# Altium footprint library 电阻.PCBLIB: 39 footprints (part 3 of 3)
Each footprint in its own frame and in the unit in brackets; x right, y up, seen from the top. Pads: shape width x height; smd on the part's side, far side on the other; paste and mask are expansions set on the pad; w line width, h text height; cw(c..) or ccw(c..) is an arc to the next point about the centre after c.
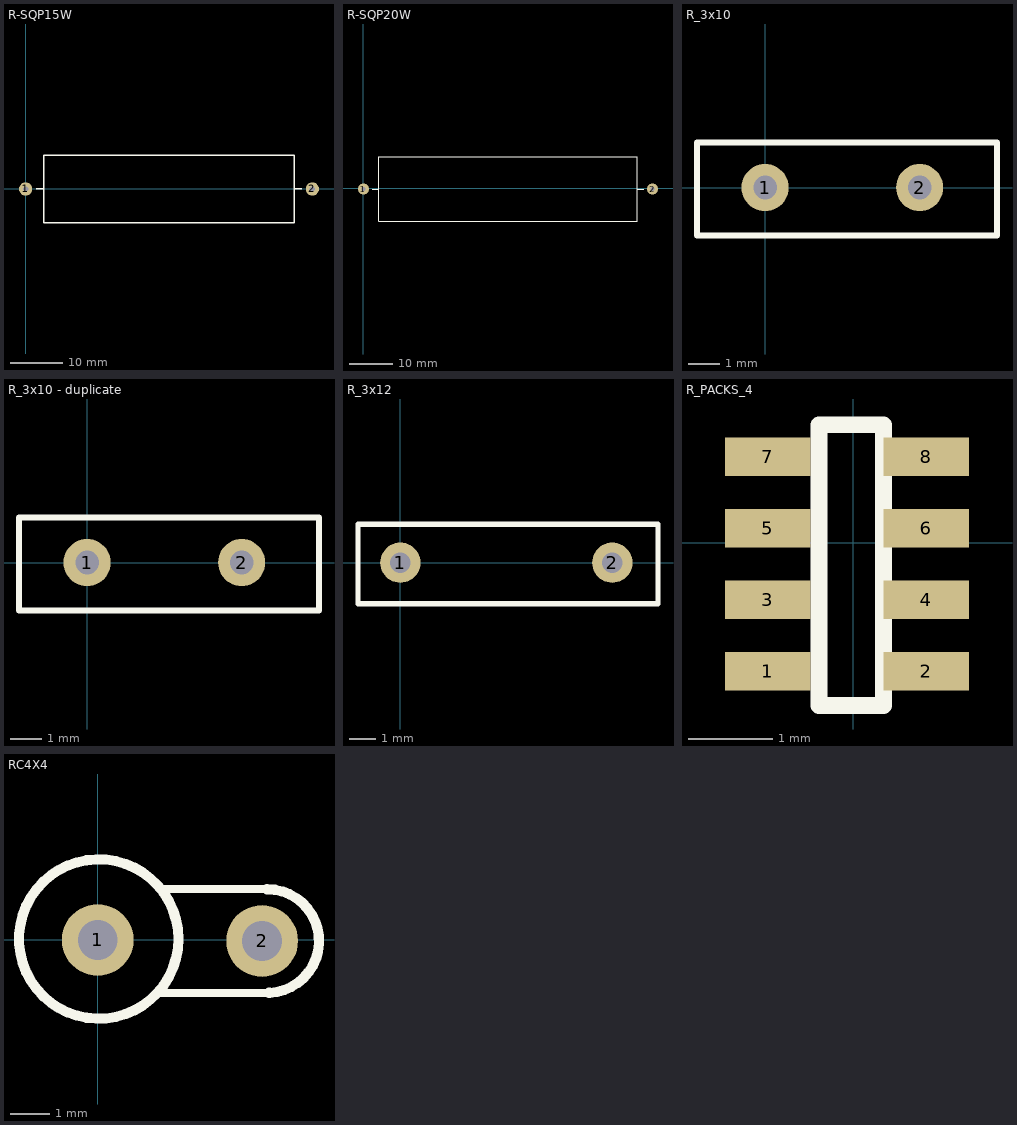
[diagram p2: the footprints below, top view; thin cyan lines are the x and y axes]

## R-SQP15W [mil]
pads (2):
  round 100 hole 40: 1(-0.18,-2.5) 2(2165.18,-2.5)
TopOverlay:
  lines w10: 78.56,-2.5 137.62,-2.5 ; 2027.38,-2.5 2086.44,-2.5 ; 137.62,-258.41 137.62,253.41 2027.38,253.41 2027.38,-258.41 137.62,-258.41

## R-SQP20W [mil]
pads (2):
  round 100 hole 40: 1(3.6,-5) 2(2641.4,-5)
TopOverlay:
  lines w10: 82.34,-5 141.4,-5 ; 2503.6,-5 2562.66,-5 ; 141.4,-300.28 2503.6,-300.28 2503.6,290.28 141.4,290.28 141.4,-300.28

## R_3x10 [mil]
pads (2):
  round 60 hole 30: 1(0,0) 2(196.85,0)
TopOverlay:
  lines w7.87: -86.61,-61.06 295.28,-61.06 295.28,57.28 -86.61,57.28 -86.61,-61.06

## R_3x10 - duplicate [mil]
pads (2):
  round 60 hole 30: 1(0,0) 2(196.85,0)
TopOverlay:
  lines w7.87: -86.61,-61.06 295.28,-61.06 295.28,57.28 -86.61,57.28 -86.61,-61.06

## R_3x12 [mil]
pads (2):
  round 60 hole 30: 1(0,0) 2(314.96,0)
TopOverlay:
  lines w7.87: -62.91,-61.06 382.83,-61.06 382.83,57.28 -62.91,57.28 -62.91,-61.06

## R_PACKS_4 [mil]
pads (8):
  rect 40x18 smd: 1(-40,-60) 2(34,-60) 3(-40,-26.67) 4(34,-26.67) 5(-40,6.67) 6(34,6.67) 7(-40,40) 8(34,40)
TopOverlay:
  lines w7.87: -16,-76 -16,55 14,55 14,-76 -16,-76

## RC4X4 [mm]
pads (2):
  round 1.8 hole 1: 1(0,0) 2(4.125,-0.025)
TopOverlay:
  circle w0.254: c0.025,0.025 r2
  lines w0.2: 1.5,-1.3 1.525,-1.325 4.275,-1.325 ; 1.575,1.25 1.6,1.275 4.2,1.275
  lines w0.254: 4.252,1.274 cw(c4.252,-0.026) 4.304,-1.325